# EAGLE library part ADXL377 (library LinnesLab-Sensors)
Analog Devices ADXL377 Low Power 3-Axis ±200 g Accelerometer with Analog Output The ADXL377 is a small, thin, low power, complete 3-axis accelerometer with signal conditioned voltage outputs. The ADXL377 measures acceleration resulting from motion, shock, or vibration with a typical full-scale range of ±200g. Datasheet <https://cdn.sparkfun.com/datasheets/Sensors/Accelerometers/ADXL377.pdf> SparkFun Products SparkFun Triple Axis Accelerometer Breakout - ADXL377 <https://www.sparkfun.com/products/12803> (SEN-12803)
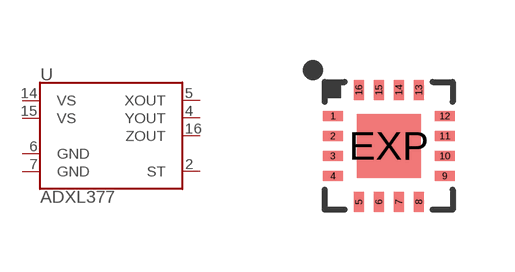
[diagram p5: symbol with the pads of LFCSP-16-3X3; footprint LFCSP-16-3X3]

Designator prefix U

## ADXL377 (PROD_ID: IC-12027)  [LFCSP-16-3X3]
2  ST
4  YOUT
5  XOUT
6  GND
7  GND
14  VS
15  VS
16  ZOUT

## Footprint LFCSP-16-3X3 (pad centres in mm)
16-Pin Lead Frame Chip Scale (LFCSP) w/ Center Pad (3 x 3 mm) Datasheet <http://www.analog.com/media/en/technical-documentation/data-sheets/ADXL337.pdf> Specifications: Pin Count: 16 (+ center pad) Area: 3.0 x 3.0 x 1.45 mm Pitch: 0.5 mm Devices Using: ADXL337 ADXL377
smd 0.5 x 0.25: 1 -1.4,0.75; 2 -1.4,0.25; 3 -1.4,-0.25; 4 -1.4,-0.75; 9 1.4,-0.75; 10 1.4,-0.25; 11 1.4,0.25; 12 1.4,0.75
smd 0.25 x 0.5: 5 -0.75,-1.4; 6 -0.25,-1.4; 7 0.25,-1.4; 8 0.75,-1.4; 13 0.75,1.4; 14 0.25,1.4; 15 -0.25,1.4; 16 -0.75,1.4
smd 1.6 x 1.6: EXP 0,0